# Altium schematic symbol library RCA Jack.SchLib: 1 symbol
Pins are listed as number, name and electrical type; pins without a type are passive.

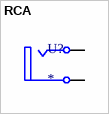
[diagram p0: symbol RCA]

## RCA
designator U?
RCA Jack; Manufacturer: CUI Inc; Part No.: RCJ-01X; Vendor: Digi-Key; Price Est.: $0.66
pins: 1 Ground (power) "Outer Shield (Sleeve)", 2 Signal "Center Pin (Plug Tip)"